# Altium integrated library TXB0102.IntLib: 1 symbol
Pins are listed as number, name and electrical type; pins without a type are passive.

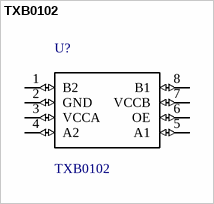
[diagram p0: symbol TXB0102]

## TXB0102
designator U?
2-Bit Bidirectional Voltage-Level Translator with Auto Direction Sensing and +/-15-kV ESD Protect; MF: Texas Instruments; SnapEDA_Link: https://www.snapeda.com/parts/TXB0102/Texas%20Instruments/view-part/?ref=snap; Price: None; MP: TXB0102; Availability: Unavailable; Package: None; Value: *
footprint SOP50P310X90-8N
pins: 1 B2 (io), 2 GND (io), 3 VCCA (io), 4 A2 (io), 5 A1 (io), 6 OE (io), 7 VCCB (io), 8 B1 (io)